# Altium integrated library C0402C390J5GAC.IntLib: 1 symbol
Pins are listed as number, name and electrical type; pins without a type are passive.

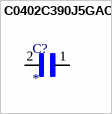
[diagram p0: symbol C0402C390J5GAC]

## C0402C390J5GAC
designator C?
MP: C0402C390J5GAC; Package: None; Price: None; Value: *; Availability: Unavailable
footprint CAPC1005X55N
pins: 1, 2